# Altium schematic symbol library Trans,NPN,25V,50mA,650MHz,SOT23-3.Schlib: 1 symbol
Pins are listed as number, name and electrical type; pins without a type are passive.

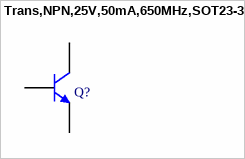
[diagram p0: symbol Trans,NPN,25V,50mA,650MHz,SOT23-3]

## Trans,NPN,25V,50mA,650MHz,SOT23-3
designator Q?
pins: 1 B, 2 E, 3 C